# EAGLE library part BTS5030-1EJA (library KVB-ICs)
IC PWR SW HI-SIDE 1CH 8DSO
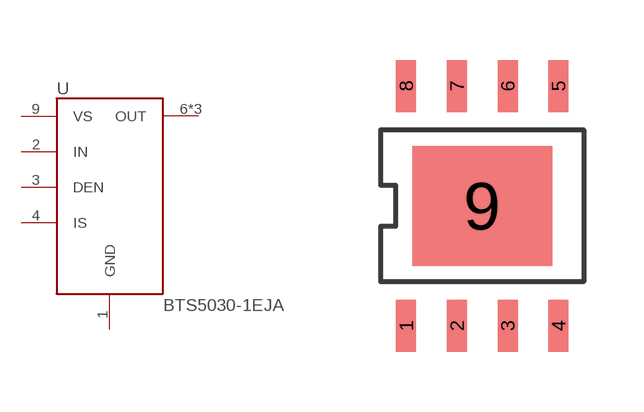
[diagram p13: symbol with the pads of BTS5030-1EJA; footprint BTS5030-1EJA]

Designator prefix U

## BTS5030-1EJA (MAN-PART_NUM: BTS5030-1EJA; MANUFACTURER: Infineon Technologies)  [BTS5030-1EJA]
1  GND
2  IN
3  DEN
4  IS
6  OUT
7  OUT
8  OUT
9  VS

## Footprint BTS5030-1EJA (pad centres in mm)
smd 0.5 x 1.3: 1 -1.905,-3; 2 -0.635,-3; 3 0.635,-3; 4 1.905,-3; 5 1.905,3; 6 0.635,3; 7 -0.635,3; 8 -1.905,3
smd 3.5 x 3: 9 0,0